# Altium schematic symbol library Socket 6.SchLib: 1 symbol
Pins are listed as number, name and electrical type; pins without a type are passive.

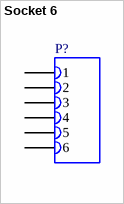
[diagram p0: symbol Socket 6]

## Socket 6
designator P?
Socket, 6-Pin
pins: 1, 2, 3, 4, 5, 6